# Altium footprint library BUTTON_B.PcbLib: 1 footprints
Each footprint in its own frame and in the unit in brackets; x right, y up, seen from the top. Pads: shape width x height; smd on the part's side, far side on the other; paste and mask are expansions set on the pad; w line width, h text height; cw(c..) or ccw(c..) is an arc to the next point about the centre after c.
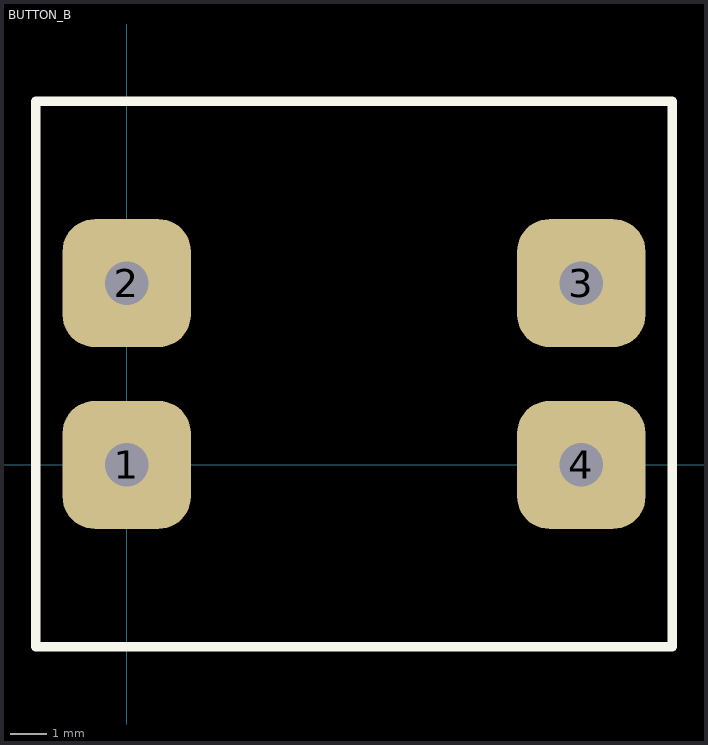
[diagram p0: the footprint, top view; thin cyan lines are the x and y axes]

## BUTTON_B [mm]
pads (4):
  rrect50% 3.524x3.524 hole 1.2: 1(0,0) 2(0,5) 3(12.5,5) 4(12.5,0)
Top Overlay:
  lines w0.254: -2.5,-5 15,-5 15,10 -2.5,10 -2.5,-5